# Altium schematic symbol library TAU1105E-1010A00.SchLib: 1 symbol
Pins are listed as number, name and electrical type; pins without a type are passive.

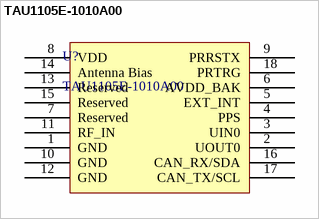
[diagram p0: symbol TAU1105E-1010A00]

## TAU1105E-1010A00
designator U?
footprint TAU1105E-1010A00
pins: 1 GND, 2 UOUT0, 3 UIN0, 4 PPS, 5 EXT_INT, 6 AVDD_BAK, 7 Reserved, 8 VDD, 9 PRRSTX, 10 GND, 11 RF_IN, 12 GND, 13 Reserved, 14 Antenna Bias, 15 Reserved, 16 CAN_RX/SDA, 17 CAN_TX/SCL, 18 PRTRG